# Altium footprint library QUTMS_SDLibrary.PcbLib: 1 footprints
Each footprint in its own frame and in the unit in brackets; x right, y up, seen from the top. Pads: shape width x height; smd on the part's side, far side on the other; paste and mask are expansions set on the pad; w line width, h text height; cw(c..) or ccw(c..) is an arc to the next point about the centre after c.
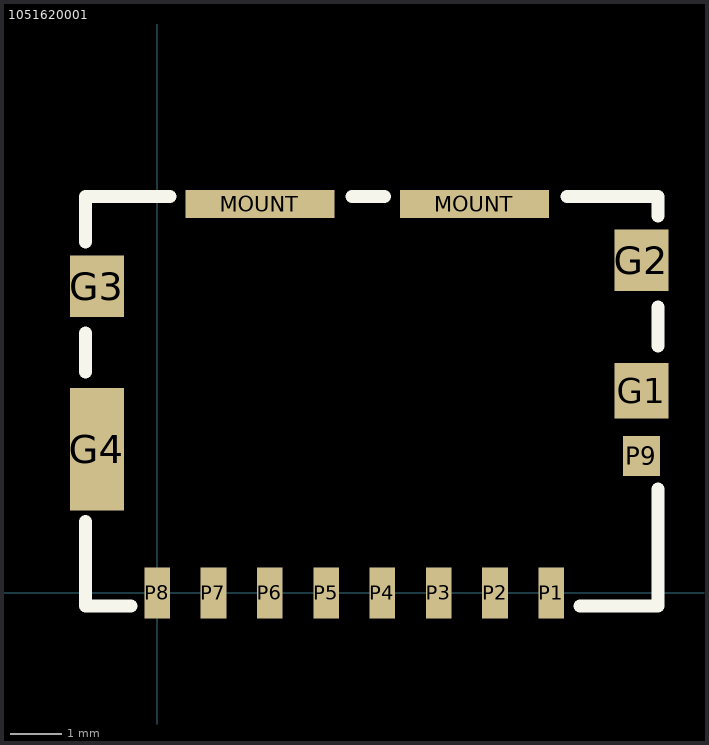
[diagram p0: the footprint, top view; thin cyan lines are the x and y axes]

## 1051620001 [mm]
pads (15):
  rect 1.05x1.08 smd: G1(9.46,3.95)
  rect 1.05x1.2 smd: G2(9.46,6.5) G3(-1.175,5.99)
  rect 1.05x2.39 smd: G4(-1.175,2.805)
  rect 2.91x0.55 smd: MOUNT(2.005,7.6) MOUNT(6.195,7.6)
  rect 0.5x1 smd: P1(7.7,0) P2(6.6,0) P3(5.5,0) P4(4.4,0) P5(3.3,0) P6(2.2,0) P7(1.1,0) P8(0,0)
  rect 0.72x0.78 smd: P9(9.46,2.68)
Top Overlay:
  lines w0.254: -1.397,1.397 -1.397,-0.254 -0.508,-0.254 ; -1.397,4.318 -1.397,5.08 ; -1.397,6.858 -1.397,7.747 0.254,7.747 ; 3.81,7.747 4.445,7.747 ; 8.001,7.747 9.779,7.747 9.779,7.366 ; 8.255,-0.254 9.779,-0.254 9.779,2.032 ; 9.779,4.826 9.779,5.588
3D body "1051620001.stp": height 1.48, standoff 0.03, extent -1.5,-0.05 9.8,7.55